# Altium schematic symbol library TL431.SchLib: 1 symbol
Pins are listed as number, name and electrical type; pins without a type are passive.

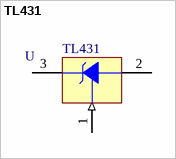
[diagram p0: symbol TL431]

## TL431
designator U  value TL431  (hidden comment: *)
footprint TO92 (Footprint not found)
pins: 1 REF (in), 2 A, 3 K